# EAGLE library part STM32L072CZY6 (library circuit_tree)
IC
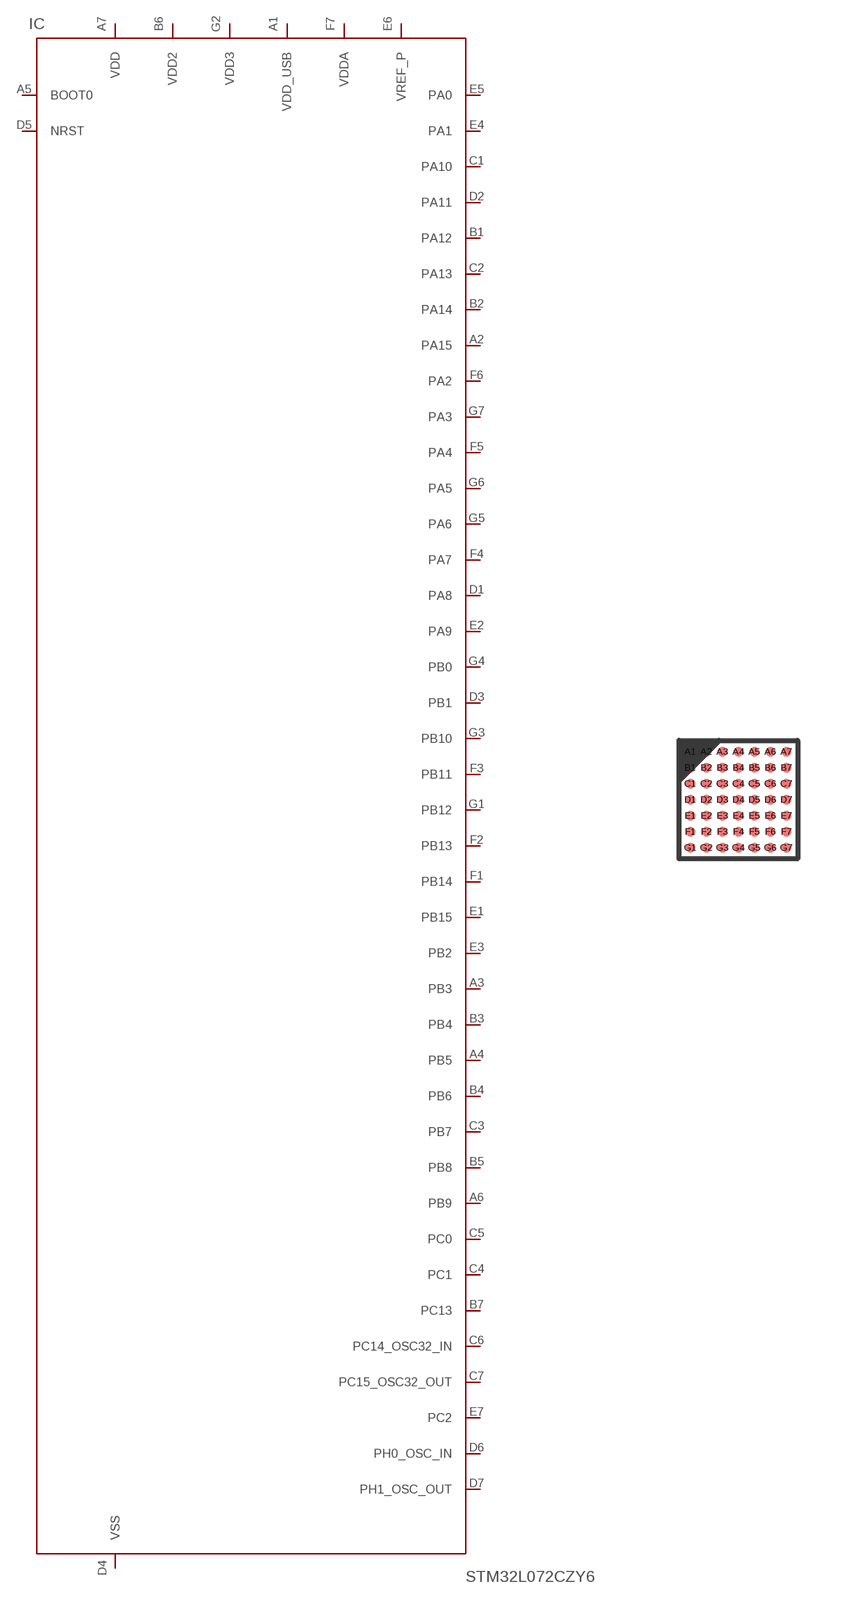
[diagram p3: symbol with the pads of WLCSP49; footprint WLCSP49]

Designator prefix IC

## STM32L072CZY6  [WLCSP49]
A1  VDD_USB  pas
A2  PA15  pas
A3  PB3  pas
A4  PB5  pas
A5  BOOT0  pas
A6  PB9  pas
A7  VDD  pas
B1  PA12  pas
B2  PA14  pas
B3  PB4  pas
B4  PB6  pas
B5  PB8  pas
B6  VDD2  pas
B7  PC13  pas
C1  PA10  pas
C2  PA13  pas
C3  PB7  pas
C4  PC1  pas
C5  PC0  pas
C6  PC14_OSC32_IN  pas
C7  PC15_OSC32_OUT  pas
D1  PA8  pas
D2  PA11  pas
D3  PB1  pas
D4  VSS  pas
D5  NRST  pas
D6  PH0_OSC_IN  pas
D7  PH1_OSC_OUT  pas
E1  PB15  pas
E2  PA9  pas
E3  PB2  pas
E4  PA1  pas
E5  PA0  pas
E6  VREF_P  pas
E7  PC2  pas
F1  PB14  pas
F2  PB13  pas
F3  PB11  pas
F4  PA7  pas
F5  PA4  pas
F6  PA2  pas
F7  VDDA  pas
G1  PB12  pas
G2  VDD3  pas
G3  PB10  pas
G4  PB0  pas
G5  PA6  pas
G6  PA5  pas
G7  PA3  pas

## Footprint WLCSP49 (pad centres in mm)
WLCSP49 2.965 x 2.965 mm, 7 x 7-pin 0.4 mm pitch wafer-level chip-scale package
smd 0.25 x 0.25: A1 -1.2,1.2; A2 -0.8,1.2; A3 -0.4,1.2; A4 0,1.2; A5 0.4,1.2; A6 0.8,1.2; A7 1.2,1.2; B1 -1.2,0.8; B2 -0.8,0.8; B3 -0.4,0.8; B4 0,0.8; B5 0.4,0.8; B6 0.8,0.8; B7 1.2,0.8; C1 -1.2,0.4; C2 -0.8,0.4; C3 -0.4,0.4; C4 0,0.4; C5 0.4,0.4; C6 0.8,0.4; C7 1.2,0.4; D1 -1.2,0; D2 -0.8,0; D3 -0.4,0; D4 0,0; D5 0.4,0; D6 0.8,0; D7 1.2,0; E1 -1.2,-0.4; E2 -0.8,-0.4; E3 -0.4,-0.4; E4 0,-0.4; E5 0.4,-0.4; E6 0.8,-0.4; E7 1.2,-0.4; F1 -1.2,-0.8; F2 -0.8,-0.8; F3 -0.4,-0.8; F4 0,-0.8; F5 0.4,-0.8; F6 0.8,-0.8; F7 1.2,-0.8; G1 -1.2,-1.2; G2 -0.8,-1.2; G3 -0.4,-1.2; G4 0,-1.2; G5 0.4,-1.2; G6 0.8,-1.2; G7 1.2,-1.2